# Altium footprint library AXK606S647.PcbLib: 1 footprints
Each footprint in its own frame and in the unit in brackets; x right, y up, seen from the top. Pads: shape width x height; smd on the part's side, far side on the other; paste and mask are expansions set on the pad; w line width, h text height; cw(c..) or ccw(c..) is an arc to the next point about the centre after c.
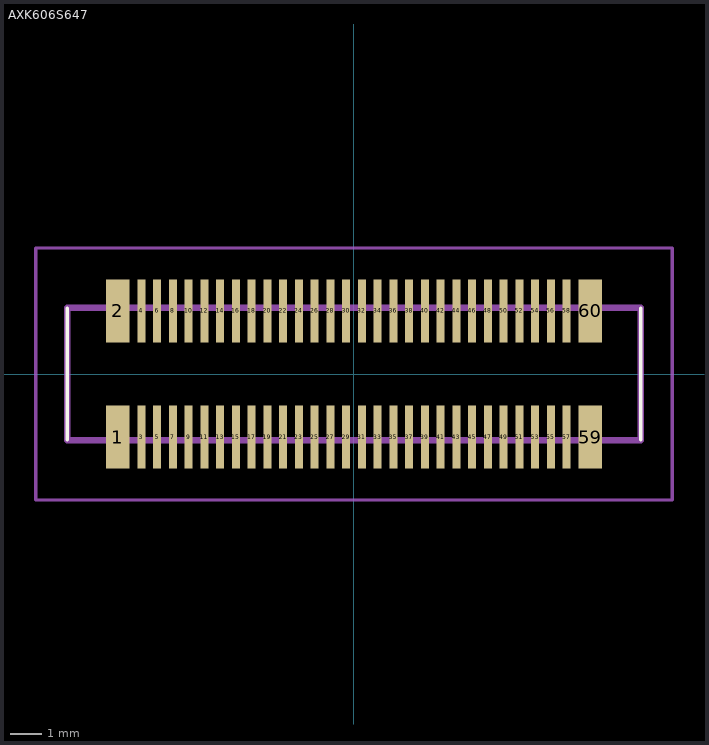
[diagram p0: the footprint, top view; thin cyan lines are the x and y axes]

## AXK606S647 [mm] "RS14100_WIFI_CONN"
pads (60):
  rect 0.75x2 smd: 1(-7.5,-2) 2(-7.5,2) 59(7.5,-2) 60(7.5,2)
  rect 0.25x2 smd: 3(-6.75,-2) 4(-6.75,2) 5(-6.25,-2) 6(-6.25,2) 7(-5.75,-2) 8(-5.75,2) 9(-5.25,-2) 10(-5.25,2) 11(-4.75,-2) 12(-4.75,2) 13(-4.25,-2) 14(-4.25,2) 15(-3.75,-2) 16(-3.75,2) 17(-3.25,-2) 18(-3.25,2) 19(-2.75,-2) 20(-2.75,2) 21(-2.25,-2) 22(-2.25,2) 23(-1.75,-2) 24(-1.75,2) 25(-1.25,-2) 26(-1.25,2) 27(-0.75,-2) 28(-0.75,2) 29(-0.25,-2) 30(-0.25,2) 31(0.25,-2) 32(0.25,2) 33(0.75,-2) 34(0.75,2) 35(1.25,-2) 36(1.25,2) 37(1.75,-2) 38(1.75,2) 39(2.25,-2) 40(2.25,2) 41(2.75,-2) 42(2.75,2) 43(3.25,-2) 44(3.25,2) 45(3.75,-2) 46(3.75,2) 47(4.25,-2) 48(4.25,2) 49(4.75,-2) 50(4.75,2) 51(5.25,-2) 52(5.25,2) 53(5.75,-2) 54(5.75,2) 55(6.25,-2) 56(6.25,2) 57(6.75,-2) 58(6.75,2)
Top Overlay:
  lines w0.1: -9.1,-2.1 -9.1,2.1 ; 9.1,-2.1 9.1,2.1
Mechanical 13:
  lines w0.2: -9.1,-2.1 9.1,-2.1 9.1,2.1 -9.1,2.1 -9.1,-2.1
Mechanical 15:
  lines w0.1: -10.1,-4 10.1,-4 10.1,4 -10.1,4 -10.1,-4
3D body "AXK6S60647YG.stp": height 5.6, standoff 0, extent -9.1,-2.975 9.1,2.975